# Altium footprint library SWITCH ROCKER SPST 10A 125V.PcbLib: 1 footprints
Each footprint in its own frame and in the unit in brackets; x right, y up, seen from the top. Pads: shape width x height; smd on the part's side, far side on the other; paste and mask are expansions set on the pad; w line width, h text height; cw(c..) or ccw(c..) is an arc to the next point about the centre after c.
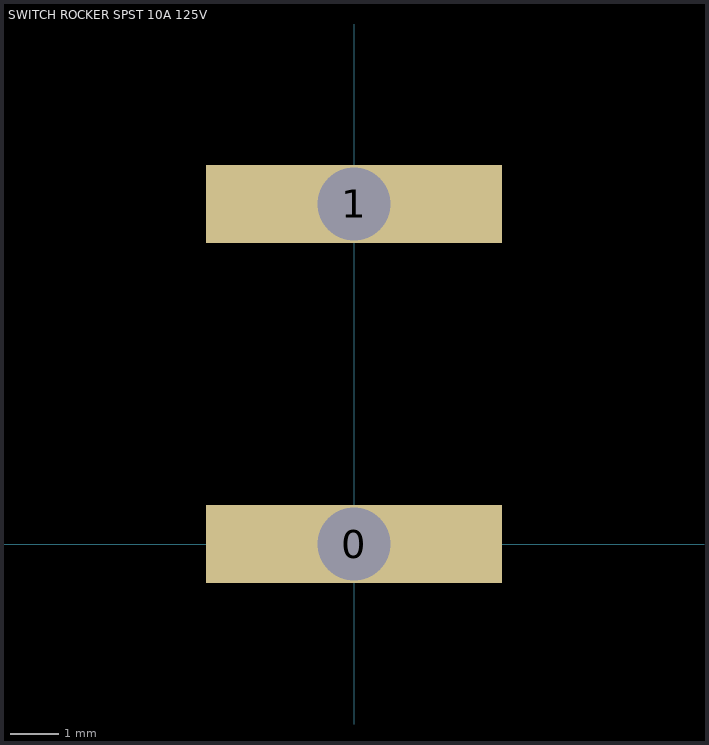
[diagram p0: the footprint, top view; thin cyan lines are the x and y axes]

## SWITCH ROCKER SPST 10A 125V [mm]
pads (2):
  rect 6.1x1.6 hole 1.5 square: 0(0,0) 1(0,7)
3D body: height 13.69, standoff 0, extent -7.3,-3.1 7.3,15.9